# Altium footprint library SOT54A.PcbLib: 1 footprints
Each footprint in its own frame and in the unit in brackets; x right, y up, seen from the top. Pads: shape width x height; smd on the part's side, far side on the other; paste and mask are expansions set on the pad; w line width, h text height; cw(c..) or ccw(c..) is an arc to the next point about the centre after c.
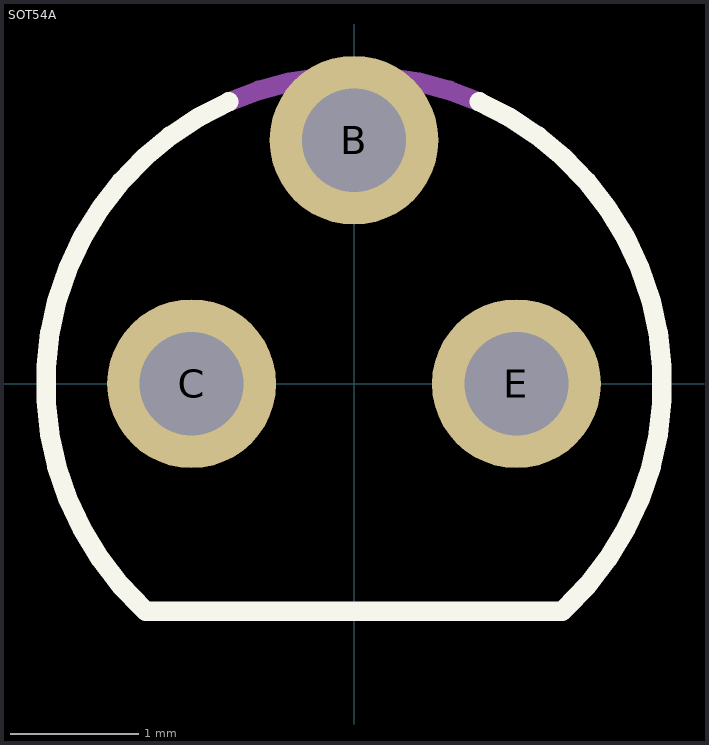
[diagram p0: the footprint, top view; thin cyan lines are the x and y axes]

## SOT54A [mil]
pads (3):
  round 52 hole 32: B(0,75) C(-50,0) E(50,0)
Top Overlay:
  lines w6: -64.78,-69.48 cw(c0.01,0) -38.63,86.79 ; -64.21,-70 64.21,-70 ; 38.63,86.79 cw(c-0.01,0) 64.78,-69.48
Mechanical 13:
  lines w6: -38.64,86.79 cw(c0,0) 38.64,86.79
3D body "step_temp.STEP": height 304.72, standoff -65.35, extent -94.45,-60.35 94.45,94.49